# EAGLE library part LM3478 (library IC)
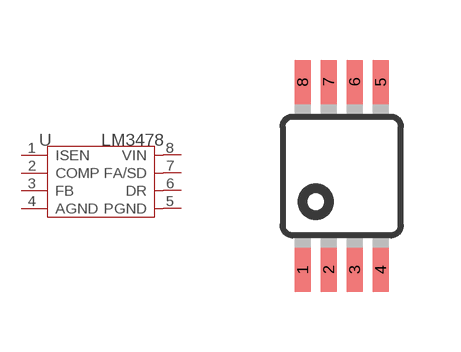
[diagram p167: symbol with the pads of MSOP8; footprint MSOP8]

Designator prefix U

## LM3478  [MSOP8]
1  ISEN  in
2  COMP
3  FB  in
4  AGND  sup
5  PGND  sup
6  DR  out
7  FA/SD
8  VIN  sup

## Footprint MSOP8 (pad centres in mm)
8M, 8-Lead, 0.118" Wide, Miniature Small Outline Package MSOP 8M-Package doc1097.pdf
smd 0.4 x 1.1: 1 -0.975,-2.35; 2 -0.325,-2.35; 3 0.325,-2.35; 4 0.975,-2.35; 5 0.975,2.35; 6 0.325,2.35; 7 -0.325,2.35; 8 -0.975,2.35